# Altium footprint library WE-SHC.PcbLib: 139 footprints (part 7 of 10)
Each footprint in its own frame and in the unit in brackets; x right, y up, seen from the top. Pads: shape width x height; smd on the part's side, far side on the other; paste and mask are expansions set on the pad; w line width, h text height; cw(c..) or ccw(c..) is an arc to the next point about the centre after c.
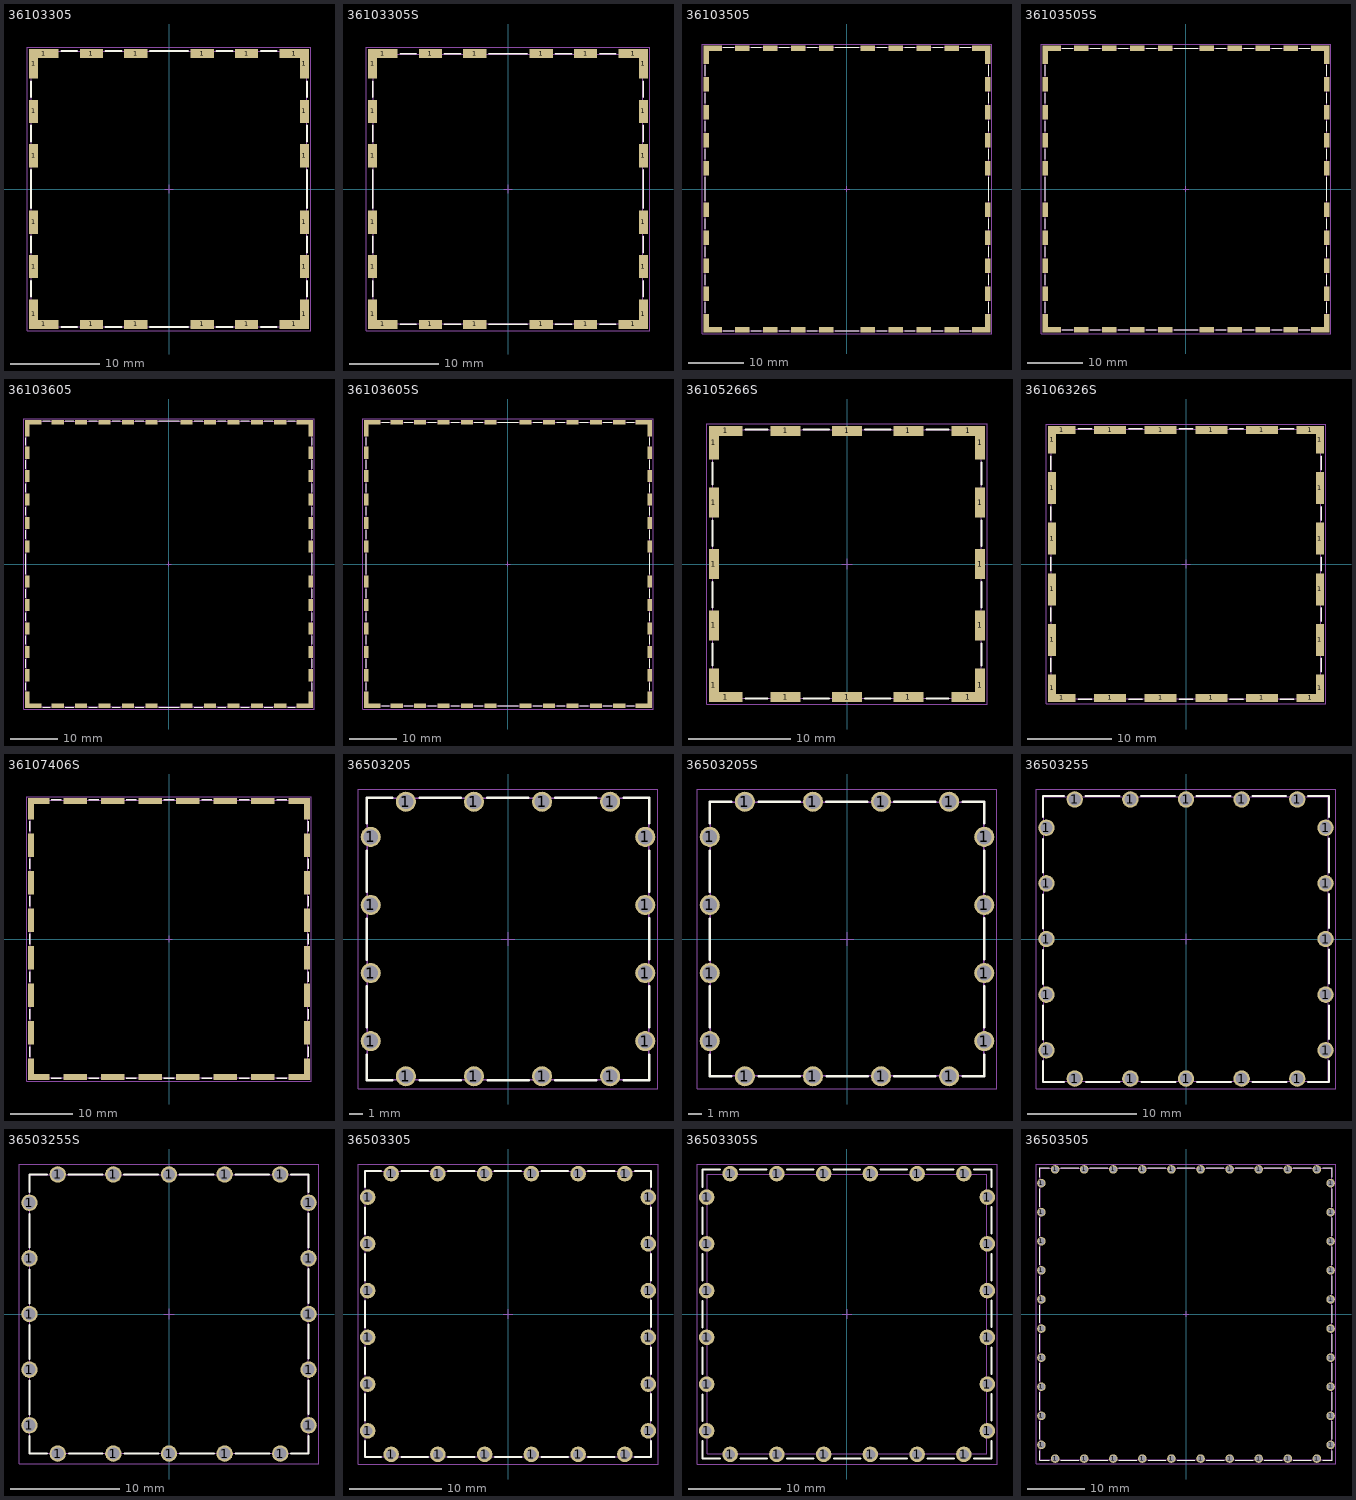
[diagram p6: the footprints below, top view; thin cyan lines are the x and y axes]

## 36103305 [mm] "Shielding Cabinet, SMD Frame, body 31x31mm"
height 3.6
pads (24):
  rect 1x3.3 smd: 1(-15.25,-14.1) 1(-15.25,14.1) 1(15.25,-14.1) 1(15.25,14.1)
  rect 1x2.6 smd: 1(-15.25,-8.75) 1(-15.25,-3.75) 1(-15.25,3.75) 1(-15.25,8.75) 1(15.25,-8.75) 1(15.25,-3.75) 1(15.25,3.75) 1(15.25,8.75)
  rect 3.3x1 smd: 1(-14.1,-15.25) 1(-14.1,15.25) 1(14.1,-15.25) 1(14.1,15.25)
  rect 2.6x1 smd: 1(-8.75,-15.25) 1(-8.75,15.25) 1(-3.75,-15.25) 1(-3.75,15.25) 1(3.75,-15.25) 1(3.75,15.25) 1(8.75,-15.25) 1(8.75,15.25)
Top Overlay:
  lines w0.2: -15.55,-12.15 -15.55,-10.35 ; -15.55,-7.15 -15.55,-5.35 ; -15.55,-2.15 -15.55,2.15 ; -15.55,5.35 -15.55,7.15 ; -15.55,10.35 -15.55,12.15 ; -12.15,-15.55 -10.35,-15.55 ; -12.15,15.55 -10.35,15.55 ; -7.15,-15.55 -5.35,-15.55 ; -7.15,15.55 -5.35,15.55 ; -2.15,-15.55 2.15,-15.55 ; -2.15,15.55 2.15,15.55 ; 5.35,-15.55 7.15,-15.55 ; 5.35,15.55 7.15,15.55 ; 10.35,-15.55 12.15,-15.55 ; 10.35,15.55 12.15,15.55 ; 15.55,-12.15 15.55,-10.35 ; 15.55,-7.15 15.55,-5.35 ; 15.55,-2.15 15.55,2.15 ; 15.55,5.35 15.55,7.15 ; 15.55,10.35 15.55,12.15
Top Component Outline:
  lines w0.1: -15.5,-15.5 15.5,-15.5 15.5,15.5 -15.5,15.5 -15.5,-15.5
Top 3D Body:
  lines w0.1: -15.5,-15.5 -15.5,15.5 15.5,15.5 15.5,-15.5 -15.5,-15.5
Top Courtyard:
  lines w0.05: -15.95,-15.95 15.95,-15.95 15.95,15.95 -15.95,15.95 -15.95,-15.95
Top Component Center:
  lines w0.05: -0.5,0 0.5,0 ; 0,-0.5 0,0.5
Top Designator (Mech19):
  text ".Designator" at -7.498,-0.5 h1.5
3D body "36103305.stp": height 3.5, standoff 0, extent -15.5,-15.5 15.5,15.5

## 36103305S [mm] "Shielding Cabinet, SMD Frame, 30.4x30.4mm"
height 3.3
pads (24):
  rect 1x3.3 smd: 1(-15.25,-14.1) 1(-15.25,14.1) 1(15.25,-14.1) 1(15.25,14.1)
  rect 1x2.6 smd: 1(-15.25,-8.75) 1(-15.25,-3.75) 1(-15.25,3.75) 1(-15.25,8.75) 1(15.25,-8.75) 1(15.25,-3.75) 1(15.25,3.75) 1(15.25,8.75)
  rect 3.3x1 smd: 1(-14.1,-15.25) 1(-14.1,15.25) 1(14.1,-15.25) 1(14.1,15.25)
  rect 2.6x1 smd: 1(-8.75,-15.25) 1(-8.75,15.25) 1(-3.75,-15.25) 1(-3.75,15.25) 1(3.75,-15.25) 1(3.75,15.25) 1(8.75,-15.25) 1(8.75,15.25)
Top Overlay:
  lines w0.2: -15.25,-12.15 -15.25,-10.35 ; -15.25,-7.15 -15.25,-5.35 ; -15.25,-2.15 -15.25,2.15 ; -15.25,5.35 -15.25,7.15 ; -15.25,10.35 -15.25,12.15 ; -12.15,-15.25 -10.35,-15.25 ; -12.15,15.25 -10.35,15.25 ; -7.15,-15.25 -5.35,-15.25 ; -7.15,15.25 -5.35,15.25 ; -2.15,-15.25 2.15,-15.25 ; -2.15,15.25 2.15,15.25 ; 5.35,-15.25 7.15,-15.25 ; 5.35,15.25 7.15,15.25 ; 10.35,-15.25 12.15,-15.25 ; 10.35,15.25 12.15,15.25 ; 15.25,-12.15 15.25,-10.35 ; 15.25,-7.15 15.25,-5.35 ; 15.25,-2.15 15.25,2.15 ; 15.25,5.35 15.25,7.15 ; 15.25,10.35 15.25,12.15
Top Component Outline:
  lines w0.1: -15.2,-15.2 -15.2,15.2 15.2,15.2 15.2,-15.2 -15.2,-15.2
Top 3D Body:
  lines w0.1: -15.2,-15.2 15.2,-15.2 15.2,15.2 -15.2,15.2 -15.2,-15.2
Top Courtyard:
  lines w0.05: -15.95,-15.95 -15.95,15.95 15.95,15.95 15.95,-15.95 -15.95,-15.95
Top Component Center:
  lines w0.05: -0.5,0 0.5,0 ; 0,-0.5 0,0.5
Top Designator (Mech19):
  text ".Designator" at -7.498,-0.5 h1.5
3D body "36103305S.stp": height 3.2, standoff 0, extent -15.2,-15.2 15.2,15.2

## 36103505 [mm] "Shielding Cabinet, SMD Frame, body 51x51mm"
height 3.6
pads (40):
  rect 1x3.3 smd: 1(-25.25,-24.1) 1(-25.25,24.1) 1(25.25,-24.1) 1(25.25,24.1)
  rect 1x2.6 smd: 1(-25.25,-18.75) 1(-25.25,-13.75) 1(-25.25,-8.75) 1(-25.25,-3.75) 1(-25.25,3.75) 1(-25.25,8.75) 1(-25.25,13.75) 1(-25.25,18.75) 1(25.25,-18.75) 1(25.25,-13.75) 1(25.25,-8.75) 1(25.25,-3.75) 1(25.25,3.75) 1(25.25,8.75) 1(25.25,13.75) 1(25.25,18.75)
  rect 3.3x1 smd: 1(-24.1,-25.25) 1(-24.1,25.25) 1(24.1,-25.25) 1(24.1,25.25)
  rect 2.6x1 smd: 1(-18.75,-25.25) 1(-18.75,25.25) 1(-13.75,-25.25) 1(-13.75,25.25) 1(-8.75,-25.25) 1(-8.75,25.25) 1(-3.75,-25.25) 1(-3.75,25.25) 1(3.75,-25.25) 1(3.75,25.25) 1(8.75,-25.25) 1(8.75,25.25) 1(13.75,-25.25) 1(13.75,25.25) 1(18.75,-25.25) 1(18.75,25.25)
Top Overlay:
  lines w0.2: -25.4,-22.15 -25.4,-20.35 ; -25.4,-17.15 -25.4,-15.35 ; -25.4,-12.15 -25.4,-10.35 ; -25.4,-7.15 -25.4,-5.35 ; -25.4,-2.15 -25.4,2.15 ; -25.4,5.35 -25.4,7.15 ; -25.4,10.35 -25.4,12.15 ; -25.4,15.35 -25.4,17.15 ; -25.4,20.35 -25.4,22.15 ; -22.15,-25.4 -20.35,-25.4 ; -22.15,25.4 -20.35,25.4 ; -17.15,-25.4 -15.35,-25.4 ; -17.15,25.4 -15.35,25.4 ; -12.15,-25.4 -10.35,-25.4 ; -12.15,25.4 -10.35,25.4 ; -7.15,-25.4 -5.35,-25.4 ; -7.15,25.4 -5.35,25.4 ; -2.15,-25.4 2.15,-25.4 ; -2.15,25.4 2.15,25.4 ; 5.35,-25.4 7.15,-25.4 ; 5.35,25.4 7.15,25.4 ; 10.35,-25.4 12.15,-25.4 ; 10.35,25.4 12.15,25.4 ; 15.35,-25.4 17.15,-25.4 ; 15.35,25.4 17.15,25.4 ; 20.35,-25.4 22.15,-25.4 ; 20.35,25.4 22.15,25.4 ; 25.4,-22.15 25.4,-20.35 ; 25.4,-17.15 25.4,-15.35 ; 25.4,-12.15 25.4,-10.35 ; 25.4,-7.15 25.4,-5.35 ; 25.4,-2.15 25.4,2.15 ; 25.4,5.35 25.4,7.15 ; 25.4,10.35 25.4,12.15 ; 25.4,15.35 25.4,17.15 ; 25.4,20.35 25.4,22.15
Top Component Outline:
  lines w0.1: -25.4,-25.4 -25.4,25.4 25.4,25.4 25.4,-25.4 -25.4,-25.4
Top 3D Body:
  lines w0.1: -25.4,-25.4 25.4,-25.4 25.4,25.4 -25.4,25.4 -25.4,-25.4
Top Courtyard:
  lines w0.05: -25.95,-25.95 25.95,-25.95 25.95,25.95 -25.95,25.95 -25.95,-25.95
Top Component Center:
  lines w0.05: -0.5,0 0.5,0 ; 0,-0.5 0,0.5
Top Designator (Mech19):
  text ".Designator" at -7.498,-0.5 h1.5
3D body "36103505.stp": height 3.5, standoff 0, extent -25.4,-25.5 25.6,25.5

## 36103505S [mm] "Shielding Cabinet, SMD Frame, 50.4x50.4mm"
height 3.3
pads (40):
  rect 1x3.3 smd: 1(-25.25,-24.1) 1(-25.25,24.1) 1(25.25,-24.1) 1(25.25,24.1)
  rect 1x2.6 smd: 1(-25.25,-18.75) 1(-25.25,-13.75) 1(-25.25,-8.75) 1(-25.25,-3.75) 1(-25.25,3.75) 1(-25.25,8.75) 1(-25.25,13.75) 1(-25.25,18.75) 1(25.25,-18.75) 1(25.25,-13.75) 1(25.25,-8.75) 1(25.25,-3.75) 1(25.25,3.75) 1(25.25,8.75) 1(25.25,13.75) 1(25.25,18.75)
  rect 3.3x1 smd: 1(-24.1,-25.25) 1(-24.1,25.25) 1(24.1,-25.25) 1(24.1,25.25)
  rect 2.6x1 smd: 1(-18.75,-25.25) 1(-18.75,25.25) 1(-13.75,-25.25) 1(-13.75,25.25) 1(-8.75,-25.25) 1(-8.75,25.25) 1(-3.75,-25.25) 1(-3.75,25.25) 1(3.75,-25.25) 1(3.75,25.25) 1(8.75,-25.25) 1(8.75,25.25) 1(13.75,-25.25) 1(13.75,25.25) 1(18.75,-25.25) 1(18.75,25.25)
Top Overlay:
  lines w0.2: -25.25,-22.15 -25.25,-20.35 ; -25.25,-17.15 -25.25,-15.35 ; -25.25,-12.15 -25.25,-10.35 ; -25.25,-7.15 -25.25,-5.35 ; -25.25,-2.15 -25.25,2.15 ; -25.25,5.35 -25.25,7.15 ; -25.25,10.35 -25.25,12.15 ; -25.25,15.35 -25.25,17.15 ; -25.25,20.35 -25.25,22.15 ; -22.15,-25.25 -20.35,-25.25 ; -22.15,25.25 -20.35,25.25 ; -17.15,-25.25 -15.35,-25.25 ; -17.15,25.25 -15.35,25.25 ; -12.15,-25.25 -10.35,-25.25 ; -12.15,25.25 -10.35,25.25 ; -7.15,-25.25 -5.35,-25.25 ; -7.15,25.25 -5.35,25.25 ; -2.15,-25.25 2.15,-25.25 ; -2.15,25.25 2.15,25.25 ; 5.35,-25.25 7.15,-25.25 ; 5.35,25.25 7.15,25.25 ; 10.35,-25.25 12.15,-25.25 ; 10.35,25.25 12.15,25.25 ; 15.35,-25.25 17.15,-25.25 ; 15.35,25.25 17.15,25.25 ; 20.35,-25.25 22.15,-25.25 ; 20.35,25.25 22.15,25.25 ; 25.25,-22.15 25.25,-20.35 ; 25.25,-17.15 25.25,-15.35 ; 25.25,-12.15 25.25,-10.35 ; 25.25,-7.15 25.25,-5.35 ; 25.25,-2.15 25.25,2.15 ; 25.25,5.35 25.25,7.15 ; 25.25,10.35 25.25,12.15 ; 25.25,15.35 25.25,17.15 ; 25.25,20.35 25.25,22.15
Top Component Outline:
  lines w0.1: -25.2,-25.2 25.2,-25.2 25.2,25.2 -25.2,25.2 -25.2,-25.2
Top 3D Body:
  lines w0.1: -25.2,-25.2 -25.2,25.2 25.2,25.2 25.2,-25.2 -25.2,-25.2
Top Courtyard:
  lines w0.05: -25.95,-25.95 25.95,-25.95 25.95,25.95 -25.95,25.95 -25.95,-25.95
Top Component Center:
  lines w0.05: -0.5,0 0.5,0 ; 0,-0.5 0,0.5
Top Designator (Mech19):
  text ".Designator" at -7.498,-0.5 h1.5
3D body "36103505S.stp": height 3.2, standoff 0, extent -25.2,-25.2 25.2,25.2

## 36103605 [mm] "Shielding Cabinet, SMD Frame, body 61x61mm"
height 3.6
pads (48):
  rect 1x3.5 smd: 1(-30.25,-29) 1(-30.25,29) 1(30.25,-29) 1(30.25,29)
  rect 1x2.6 smd: 1(-30.25,-23.75) 1(-30.25,-18.75) 1(-30.25,-13.75) 1(-30.25,-8.75) 1(-30.25,-3.75) 1(-30.25,3.75) 1(-30.25,8.75) 1(-30.25,13.75) 1(-30.25,18.75) 1(-30.25,23.75) 1(30.25,-23.75) 1(30.25,-18.75) 1(30.25,-13.75) 1(30.25,-8.75) 1(30.25,-3.75) 1(30.25,3.75) 1(30.25,8.75) 1(30.25,13.75) 1(30.25,18.75) 1(30.25,23.75)
  rect 3.5x1 smd: 1(-29,-30.25) 1(-29,30.25) 1(29,-30.25) 1(29,30.25)
  rect 2.6x1 smd: 1(-23.75,-30.25) 1(-23.75,30.25) 1(-18.75,-30.25) 1(-18.75,30.25) 1(-13.75,-30.25) 1(-13.75,30.25) 1(-8.75,-30.25) 1(-8.75,30.25) 1(-3.75,-30.25) 1(-3.75,30.25) 1(3.75,-30.25) 1(3.75,30.25) 1(8.75,-30.25) 1(8.75,30.25) 1(13.75,-30.25) 1(13.75,30.25) 1(18.75,-30.25) 1(18.75,30.25) 1(23.75,-30.25) 1(23.75,30.25)
Top Overlay:
  lines w0.2: -30.55,-26.95 -30.55,-25.35 ; -30.55,-22.15 -30.55,-20.35 ; -30.55,-17.15 -30.55,-15.35 ; -30.55,-12.15 -30.55,-10.35 ; -30.55,-7.15 -30.55,-5.35 ; -30.55,-2.15 -30.55,2.15 ; -30.55,5.35 -30.55,7.15 ; -30.55,10.35 -30.55,12.15 ; -30.55,15.35 -30.55,17.15 ; -30.55,20.35 -30.55,22.15 ; -30.55,25.35 -30.55,26.95 ; -26.95,-30.55 -25.35,-30.55 ; -26.95,30.55 -25.35,30.55 ; -22.15,-30.55 -20.35,-30.55 ; -22.15,30.55 -20.35,30.55 ; -17.15,-30.55 -15.35,-30.55 ; -17.15,30.55 -15.35,30.55 ; -12.15,-30.55 -10.35,-30.55 ; -12.15,30.55 -10.35,30.55 ; -7.15,-30.55 -5.35,-30.55 ; -7.15,30.55 -5.35,30.55 ; -2.15,-30.55 2.15,-30.55 ; -2.15,30.55 2.15,30.55 ; 5.35,-30.55 7.15,-30.55 ; 5.35,30.55 7.15,30.55 ; 10.35,-30.55 12.15,-30.55 ; 10.35,30.55 12.15,30.55 ; 15.35,-30.55 17.15,-30.55 ; 15.35,30.55 17.15,30.55 ; 20.35,-30.55 22.15,-30.55 ; 20.35,30.55 22.15,30.55 ; 25.35,-30.55 26.95,-30.55 ; 25.35,30.55 26.95,30.55 ; 30.55,-26.95 30.55,-25.35 ; 30.55,-22.15 30.55,-20.35 ; 30.55,-17.15 30.55,-15.35 ; 30.55,-12.15 30.55,-10.35 ; 30.55,-7.15 30.55,-5.35 ; 30.55,-2.15 30.55,2.15 ; 30.55,5.35 30.55,7.15 ; 30.55,10.35 30.55,12.15 ; 30.55,15.35 30.55,17.15 ; 30.55,20.35 30.55,22.15 ; 30.55,25.35 30.55,26.95
Top Component Outline:
  lines w0.1: -30.5,-30.5 -30.5,30.5 30.5,30.5 30.5,-30.5 -30.5,-30.5
Top 3D Body:
  lines w0.1: -30.5,-30.5 30.5,-30.5 30.5,30.5 -30.5,30.5 -30.5,-30.5
Top Courtyard:
  lines w0.05: -30.95,-30.95 -30.95,30.95 30.95,30.95 30.95,-30.95 -30.95,-30.95
Top Component Center:
  lines w0.05: -0.5,0 0.5,0 ; 0,-0.5 0,0.5
Top Designator (Mech19):
  text ".Designator" at -7.498,-0.5 h1.5
3D body "36103605.stp": height 3.5, standoff 0, extent -30.5,-30.5 30.5,30.5

## 36103605S [mm] "Shielding Cabinet, SMD Frame, 60.4x60.4mm"
height 3.3
pads (48):
  rect 1x3.5 smd: 1(-30.25,-29) 1(-30.25,29) 1(30.25,-29) 1(30.25,29)
  rect 1x2.6 smd: 1(-30.25,-23.75) 1(-30.25,-18.75) 1(-30.25,-13.75) 1(-30.25,-8.75) 1(-30.25,-3.75) 1(-30.25,3.75) 1(-30.25,8.75) 1(-30.25,13.75) 1(-30.25,18.75) 1(-30.25,23.75) 1(30.25,-23.75) 1(30.25,-18.75) 1(30.25,-13.75) 1(30.25,-8.75) 1(30.25,-3.75) 1(30.25,3.75) 1(30.25,8.75) 1(30.25,13.75) 1(30.25,18.75) 1(30.25,23.75)
  rect 3.5x1 smd: 1(-29,-30.25) 1(-29,30.25) 1(29,-30.25) 1(29,30.25)
  rect 2.6x1 smd: 1(-23.75,-30.25) 1(-23.75,30.25) 1(-18.75,-30.25) 1(-18.75,30.25) 1(-13.75,-30.25) 1(-13.75,30.25) 1(-8.75,-30.25) 1(-8.75,30.25) 1(-3.75,-30.25) 1(-3.75,30.25) 1(3.75,-30.25) 1(3.75,30.25) 1(8.75,-30.25) 1(8.75,30.25) 1(13.75,-30.25) 1(13.75,30.25) 1(18.75,-30.25) 1(18.75,30.25) 1(23.75,-30.25) 1(23.75,30.25)
Top Overlay:
  lines w0.2: -30.25,-26.95 -30.25,-25.35 ; -30.25,-22.15 -30.25,-20.35 ; -30.25,-17.15 -30.25,-15.35 ; -30.25,-12.15 -30.25,-10.35 ; -30.25,-7.15 -30.25,-5.35 ; -30.25,-2.15 -30.25,2.15 ; -30.25,5.35 -30.25,7.15 ; -30.25,10.35 -30.25,12.15 ; -30.25,15.35 -30.25,17.15 ; -30.25,20.35 -30.25,22.15 ; -30.25,25.35 -30.25,26.95 ; -26.95,-30.25 -25.35,-30.25 ; -26.95,30.25 -25.35,30.25 ; -22.15,-30.25 -20.35,-30.25 ; -22.15,30.25 -20.35,30.25 ; -17.15,-30.25 -15.35,-30.25 ; -17.15,30.25 -15.35,30.25 ; -12.15,-30.25 -10.35,-30.25 ; -12.15,30.25 -10.35,30.25 ; -7.15,-30.25 -5.35,-30.25 ; -7.15,30.25 -5.35,30.25 ; -2.15,-30.25 2.15,-30.25 ; -2.15,30.25 2.15,30.25 ; 5.35,-30.25 7.15,-30.25 ; 5.35,30.25 7.15,30.25 ; 10.35,-30.25 12.15,-30.25 ; 10.35,30.25 12.15,30.25 ; 15.35,-30.25 17.15,-30.25 ; 15.35,30.25 17.15,30.25 ; 20.35,-30.25 22.15,-30.25 ; 20.35,30.25 22.15,30.25 ; 25.35,-30.25 26.95,-30.25 ; 25.35,30.25 26.95,30.25 ; 30.25,-26.95 30.25,-25.35 ; 30.25,-22.15 30.25,-20.35 ; 30.25,-17.15 30.25,-15.35 ; 30.25,-12.15 30.25,-10.35 ; 30.25,-7.15 30.25,-5.35 ; 30.25,-2.15 30.25,2.15 ; 30.25,5.35 30.25,7.15 ; 30.25,10.35 30.25,12.15 ; 30.25,15.35 30.25,17.15 ; 30.25,20.35 30.25,22.15 ; 30.25,25.35 30.25,26.95
Top Component Outline:
  lines w0.1: -30.2,-30.2 30.2,-30.2 30.2,30.2 -30.2,30.2 -30.2,-30.2
Top 3D Body:
  lines w0.1: -30.2,-30.2 -30.2,30.2 30.2,30.2 30.2,-30.2 -30.2,-30.2
Top Courtyard:
  lines w0.05: -30.95,-30.95 -30.95,30.95 30.95,30.95 30.95,-30.95 -30.95,-30.95
Top Component Center:
  lines w0.05: -0.5,0 0.5,0 ; 0,-0.5 0,0.5
Top Designator (Mech19):
  text ".Designator" at -7.498,-0.5 h1.5
3D body "36103605S.stp": height 3.2, standoff 0, extent -30.2,-30.2 30.2,30.2

## 36105266S [mm] "Shielding Cabinet, SMD Frame, body 26.21x26.21mm"
height 5.18
pads (20):
  rect 1x3.3 smd: 1(-13.005,-11.855) 1(-13.005,11.855) 1(13.005,-11.855) 1(13.005,11.855)
  rect 1x2.9 smd: 1(-13.005,-6) 1(-13.005,0) 1(-13.005,6) 1(13.005,-6) 1(13.005,0) 1(13.005,6)
  rect 3.3x1 smd: 1(-11.855,-13.005) 1(-11.855,13.005) 1(11.855,-13.005) 1(11.855,13.005)
  rect 2.9x1 smd: 1(-6,-13.005) 1(-6,13.005) 1(0,-13.005) 1(0,13.005) 1(6,-13.005) 1(6,13.005)
Top Overlay:
  lines w0.2: -13.155,-9.9 -13.155,-7.75 ; -13.155,-4.25 -13.155,-1.75 ; -13.155,1.75 -13.155,4.25 ; -13.155,7.75 -13.155,9.9 ; -9.9,-13.155 -7.75,-13.155 ; -9.9,13.155 -7.75,13.155 ; -4.25,-13.155 -1.75,-13.155 ; -4.25,13.155 -1.75,13.155 ; 1.75,-13.155 4.25,-13.155 ; 1.75,13.155 4.25,13.155 ; 7.75,-13.155 9.9,-13.155 ; 7.75,13.155 9.9,13.155 ; 13.155,-9.9 13.155,-7.75 ; 13.155,-4.25 13.155,-1.75 ; 13.155,1.75 13.155,4.25 ; 13.155,7.75 13.155,9.9
Top Component Outline:
  lines w0.1: -13.105,-13.105 -13.105,13.105 13.105,13.105 13.105,-13.105 -13.105,-13.105
Top 3D Body:
  lines w0.1: -13.105,-13.105 13.105,-13.105 13.105,13.105 -13.105,13.105 -13.105,-13.105
Top Courtyard:
  lines w0.05: -13.705,-13.705 -13.705,13.705 13.705,13.705 13.705,-13.705 -13.705,-13.705
Top Component Center:
  lines w0.05: -0.5,0 0.5,0 ; 0,-0.5 0,0.5
Top Designator (Mech19):
  text ".Designator" at -7.498,-0.5 h1.5
3D body "36105266S.stp": height 5.09, standoff 0.01, extent -13.105,-13.105 13.105,13.105

## 36106326S [mm] "Shielding Cabinet, SMD Frame, body 32x32mm"
height 6.1
pads (24):
  rect 1x3.3 smd: 1(-15.9,-14.75) 1(-15.9,14.75) 1(15.9,-14.75) 1(15.9,14.75)
  rect 1x3.8 smd: 1(-15.9,-9) 1(-15.9,-3) 1(-15.9,3) 1(-15.9,9) 1(15.9,-9) 1(15.9,-3) 1(15.9,3) 1(15.9,9)
  rect 3.3x1 smd: 1(-14.75,-15.9) 1(-14.75,15.9) 1(14.75,-15.9) 1(14.75,15.9)
  rect 3.8x1 smd: 1(-9,-15.9) 1(-9,15.9) 1(-3,-15.9) 1(-3,15.9) 1(3,-15.9) 1(3,15.9) 1(9,-15.9) 1(9,15.9)
Top Overlay:
  lines w0.2: -16.05,-12.8 -16.05,-11.2 ; -16.05,-6.8 -16.05,-5.2 ; -16.05,-0.8 -16.05,0.8 ; -16.05,5.2 -16.05,6.8 ; -16.05,11.2 -16.05,12.8 ; -12.8,-16.05 -11.2,-16.05 ; -12.8,16.05 -11.2,16.05 ; -6.8,-16.05 -5.2,-16.05 ; -6.8,16.05 -5.2,16.05 ; -0.8,-16.05 0.8,-16.05 ; -0.8,16.05 0.8,16.05 ; 5.2,-16.05 6.8,-16.05 ; 5.2,16.05 6.8,16.05 ; 11.2,-16.05 12.8,-16.05 ; 11.2,16.05 12.8,16.05 ; 16.05,-12.8 16.05,-11.2 ; 16.05,-6.8 16.05,-5.2 ; 16.05,-0.8 16.05,0.8 ; 16.05,5.2 16.05,6.8 ; 16.05,11.2 16.05,12.8
Top Component Outline:
  lines w0.1: -16,-16 -16,16 16,16 16,-16 -16,-16
Top 3D Body:
  lines w0.1: -16,-16 16,-16 16,16 -16,16 -16,-16
Top Courtyard:
  lines w0.05: -16.6,-16.6 -16.6,16.6 16.6,16.6 16.6,-16.6 -16.6,-16.6
Top Component Center:
  lines w0.05: -0.5,0 0.5,0 ; 0,-0.5 0,0.5
Top Designator (Mech19):
  text ".Designator" at -7.498,-0.5 h1.5
3D body "36106326S.stp": height 6, standoff 0, extent -16,-16 16,16

## 36107406S [mm] "Shielding Cabinet, SMD Frame, body 44.37x44.37mm"
height 9.85
pads (32):
  rect 1x3.48 smd: 1(-22.085,-20.845) 1(-22.085,20.845) 1(22.085,-20.845) 1(22.085,20.845)
  rect 1x3.8 smd: 1(-22.085,-15) 1(-22.085,-9) 1(-22.085,-3) 1(-22.085,3) 1(-22.085,9) 1(-22.085,15) 1(22.085,-15) 1(22.085,-9) 1(22.085,-3) 1(22.085,3) 1(22.085,9) 1(22.085,15)
  rect 3.48x1 smd: 1(-20.845,-22.085) 1(-20.845,22.085) 1(20.845,-22.085) 1(20.845,22.085)
  rect 3.8x1 smd: 1(-15,-22.085) 1(-15,22.085) 1(-9,-22.085) 1(-9,22.085) 1(-3,-22.085) 1(-3,22.085) 1(3,-22.085) 1(3,22.085) 1(9,-22.085) 1(9,22.085) 1(15,-22.085) 1(15,22.085)
Top Overlay:
  lines w0.2: -22.235,-18.8 -22.235,-17.2 ; -22.235,-12.8 -22.235,-11.2 ; -22.235,-6.8 -22.235,-5.2 ; -22.235,-0.8 -22.235,0.8 ; -22.235,5.2 -22.235,6.8 ; -22.235,11.2 -22.235,12.8 ; -22.235,17.2 -22.235,18.8 ; -18.8,-22.235 -17.2,-22.235 ; -18.8,22.235 -17.2,22.235 ; -12.8,-22.235 -11.2,-22.235 ; -12.8,22.235 -11.2,22.235 ; -6.8,-22.235 -5.2,-22.235 ; -6.8,22.235 -5.2,22.235 ; -0.8,-22.235 0.8,-22.235 ; -0.8,22.235 0.8,22.235 ; 5.2,-22.235 6.8,-22.235 ; 5.2,22.235 6.8,22.235 ; 11.2,-22.235 12.8,-22.235 ; 11.2,22.235 12.8,22.235 ; 17.2,-22.235 18.8,-22.235 ; 17.2,22.235 18.8,22.235 ; 22.235,-18.8 22.235,-17.2 ; 22.235,-12.8 22.235,-11.2 ; 22.235,-6.8 22.235,-5.2 ; 22.235,-0.8 22.235,0.8 ; 22.235,5.2 22.235,6.8 ; 22.235,11.2 22.235,12.8 ; 22.235,17.2 22.235,18.8
Top Component Outline:
  lines w0.1: -22.185,-22.185 -22.185,22.185 22.185,22.185 22.185,-22.185 -22.185,-22.185
Top 3D Body:
  lines w0.1: -22.185,-22.185 22.185,-22.185 22.185,22.185 -22.185,22.185 -22.185,-22.185
Top Courtyard:
  lines w0.05: -22.785,-22.785 -22.785,22.785 22.785,22.785 22.785,-22.785 -22.785,-22.785
Top Component Center:
  lines w0.05: -0.5,0 0.5,0 ; 0,-0.5 0,0.5
Top Designator (Mech19):
  text ".Designator" at -7.498,-0.5 h1.5
3D body "36107406S.stp": height 9.75, standoff 0, extent -22.185,-22.185 22.185,22.185

## 36503205 [mm] "Shielding Cabinet, THT Frame, body 21x21mm"
height 3.6
pads (16):
  round 1.5 hole 1.1: 1(-10.25,-7.62) 1(-10.25,-2.54) 1(-10.25,2.54) 1(-10.25,7.62) 1(-7.62,-10.25) 1(-7.62,10.25) 1(-2.54,-10.25) 1(-2.54,10.25) 1(2.54,-10.25) 1(2.54,10.25) 1(7.62,-10.25) 1(7.62,10.25) 1(10.25,-7.62) 1(10.25,-2.54) 1(10.25,2.54) 1(10.25,7.62)
Top Overlay:
  lines w0.2: -10.55,-8.65 -10.55,-10.55 -8.65,-10.55 ; -10.55,-6.59 -10.55,-3.55 ; -10.55,-1.53 -10.55,1.51 ; -10.55,3.55 -10.55,6.59 ; -10.55,8.65 -10.55,10.55 -8.65,10.55 ; -6.59,-10.55 -3.55,-10.55 ; -6.59,10.55 -3.55,10.55 ; -1.53,10.55 1.51,10.55 ; -1.51,-10.55 1.53,-10.55 ; 3.55,-10.55 6.59,-10.55 ; 3.55,10.55 6.59,10.55 ; 8.65,-10.55 10.55,-10.55 10.55,-8.65 ; 8.65,10.55 10.55,10.55 10.55,8.65 ; 10.55,-6.59 10.55,-3.55 ; 10.55,-1.51 10.55,1.53 ; 10.55,3.55 10.55,6.59
Top Component Outline:
  lines w0.1: -10.5,-10.5 -10.5,10.5 10.5,10.5 10.5,-10.5 -10.5,-10.5
Top 3D Body:
  lines w0.1: -10.5,-10.5 10.5,-10.5 10.5,10.5 -10.5,10.5 -10.5,-10.5
Top Courtyard:
  lines w0.05: -11.2,-11.2 -11.2,11.2 11.2,11.2 11.2,-11.2 -11.2,-11.2
Top Component Center:
  lines w0.05: -0.5,0 0.5,0 ; 0,-0.5 0,0.5
Top Designator (Mech19):
  text ".Designator" at -7.498,-0.5 h1.5
3D body "36503205.stp": height 3.5, standoff -2.9, extent -10.5,-10.5 10.5,10.5

## 36503205S [mm] "Shielding Cabinet, THT Frame, body 20.4x20.4mm"
height 3.3
pads (16):
  round 1.5 hole 1.1: 1(-10.25,-7.62) 1(-10.25,-2.54) 1(-10.25,2.54) 1(-10.25,7.62) 1(-7.62,-10.25) 1(-7.62,10.25) 1(-2.54,-10.25) 1(-2.54,10.25) 1(2.54,-10.25) 1(2.54,10.25) 1(7.62,-10.25) 1(7.62,10.25) 1(10.25,-7.62) 1(10.25,-2.54) 1(10.25,2.54) 1(10.25,7.62)
Top Overlay:
  lines w0.2: -10.25,-8.65 -10.25,-10.25 -8.65,-10.25 ; -10.25,-6.59 -10.25,-3.55 ; -10.25,-1.53 -10.25,1.51 ; -10.25,3.55 -10.25,6.59 ; -10.25,8.65 -10.25,10.25 -8.65,10.25 ; -6.59,-10.25 -3.55,-10.25 ; -6.59,10.25 -3.55,10.25 ; -1.53,10.25 1.51,10.25 ; -1.51,-10.25 1.53,-10.25 ; 3.55,-10.25 6.59,-10.25 ; 3.55,10.25 6.59,10.25 ; 8.65,-10.25 10.25,-10.25 10.25,-8.65 ; 8.65,10.25 10.25,10.25 10.25,8.65 ; 10.25,-6.59 10.25,-3.55 ; 10.25,-1.51 10.25,1.53 ; 10.25,3.55 10.25,6.59
Top Component Outline:
  lines w0.1: -10.2,-10.2 10.2,-10.2 10.2,10.2 -10.2,10.2 -10.2,-10.2
Top 3D Body:
  lines w0.1: -10.2,-10.2 -10.2,10.2 10.2,10.2 10.2,-10.2 -10.2,-10.2
Top Courtyard:
  lines w0.05: -11.2,-11.2 -11.2,11.2 11.2,11.2 11.2,-11.2 -11.2,-11.2
Top Component Center:
  lines w0.05: -0.5,0 0.5,0 ; 0,-0.5 0,0.5
Top Designator (Mech19):
  text ".Designator" at -7.498,-0.5 h1.5
3D body "36503205S.stp": height 3.2, standoff -2.9, extent -10.2,-10.2 10.2,10.2

## 36503255 [mm] "Shielding Cabinet, THT Frame, body 26x26mm"
height 3.6
pads (20):
  round 1.5 hole 1.1: 1(-12.75,-10.16) 1(-12.75,-5.08) 1(-12.75,0) 1(-12.75,5.08) 1(-12.75,10.16) 1(-10.16,-12.75) 1(-10.16,12.75) 1(-5.08,-12.75) 1(-5.08,12.75) 1(0,-12.75) 1(0,12.75) 1(5.08,-12.75) 1(5.08,12.75) 1(10.16,-12.75) 1(10.16,12.75) 1(12.75,-10.16) 1(12.75,-5.08) 1(12.75,0) 1(12.75,5.08) 1(12.75,10.16)
Top Overlay:
  lines w0.2: -13.05,-11.15 -13.05,-13.05 -11.15,-13.05 ; -13.05,-9.17 -13.05,-6.1 ; -13.05,-4.09 -13.05,-1.02 ; -13.05,0.99 -13.05,4.06 ; -13.05,6.07 -13.05,9.14 ; -13.05,11.15 -13.05,13.05 -11.15,13.05 ; -9.17,13.05 -6.1,13.05 ; -9.14,-13.05 -6.07,-13.05 ; -4.09,13.05 -1.02,13.05 ; -4.06,-13.05 -0.99,-13.05 ; 0.99,13.05 4.06,13.05 ; 1.02,-13.05 4.09,-13.05 ; 6.07,13.05 9.14,13.05 ; 6.1,-13.05 9.17,-13.05 ; 11.15,-13.05 13.05,-13.05 13.05,-11.15 ; 11.15,13.05 13.05,13.05 13.05,11.15 ; 13.05,-9.14 13.05,-6.07 ; 13.05,-4.06 13.05,-0.99 ; 13.05,1.02 13.05,4.09 ; 13.05,6.1 13.05,9.17
Top Component Outline:
  lines w0.1: -13,-13 13,-13 13,13 -13,13 -13,-13
Top 3D Body:
  lines w0.1: -13,-13 -13,13 13,13 13,-13 -13,-13
Top Courtyard:
  lines w0.05: -13.7,-13.7 13.7,-13.7 13.7,13.7 -13.7,13.7 -13.7,-13.7
Top Component Center:
  lines w0.05: -0.5,0 0.5,0 ; 0,-0.5 0,0.5
Top Designator (Mech19):
  text ".Designator" at -7.498,-0.5 h1.5
3D body "36503255.stp": height 3.5, standoff -2.9, extent -13,-13 13,13

## 36503255S [mm] "Shielding Cabinet, THT Frame, body 25.4x25.4mm"
height 3.3
pads (20):
  round 1.5 hole 1.1: 1(-12.75,-10.16) 1(-12.75,-5.08) 1(-12.75,0) 1(-12.75,5.08) 1(-12.75,10.16) 1(-10.16,-12.75) 1(-10.16,12.75) 1(-5.08,-12.75) 1(-5.08,12.75) 1(0,-12.75) 1(0,12.75) 1(5.08,-12.75) 1(5.08,12.75) 1(10.16,-12.75) 1(10.16,12.75) 1(12.75,-10.16) 1(12.75,-5.08) 1(12.75,0) 1(12.75,5.08) 1(12.75,10.16)
Top Overlay:
  lines w0.2: -12.75,-11.15 -12.75,-12.75 -11.15,-12.75 ; -12.75,-9.17 -12.75,-6.1 ; -12.75,-4.09 -12.75,-1.02 ; -12.75,0.99 -12.75,4.06 ; -12.75,6.07 -12.75,9.14 ; -12.75,11.15 -12.75,12.75 -11.15,12.75 ; -9.17,12.75 -6.1,12.75 ; -9.14,-12.75 -6.07,-12.75 ; -4.09,12.75 -1.02,12.75 ; -4.06,-12.75 -0.99,-12.75 ; 0.99,12.75 4.06,12.75 ; 1.02,-12.75 4.09,-12.75 ; 6.07,12.75 9.14,12.75 ; 6.1,-12.75 9.17,-12.75 ; 11.15,-12.75 12.75,-12.75 12.75,-11.15 ; 11.15,12.75 12.75,12.75 12.75,11.15 ; 12.75,-9.14 12.75,-6.07 ; 12.75,-4.06 12.75,-0.99 ; 12.75,1.02 12.75,4.09 ; 12.75,6.1 12.75,9.17
Top Component Outline:
  lines w0.1: -12.7,-12.7 12.7,-12.7 12.7,12.7 -12.7,12.7 -12.7,-12.7
Top 3D Body:
  lines w0.1: -12.7,-12.7 -12.7,12.7 12.7,12.7 12.7,-12.7 -12.7,-12.7
Top Courtyard:
  lines w0.05: -13.7,-13.7 -13.7,13.7 13.7,13.7 13.7,-13.7 -13.7,-13.7
Top Component Center:
  lines w0.05: -0.5,0 0.5,0 ; 0,-0.5 0,0.5
Top Designator (Mech19):
  text ".Designator" at -7.498,-0.5 h1.5
3D body "36503255S.stp": height 3.2, standoff -2.9, extent -12.7,-12.7 12.7,12.7

## 36503305 [mm] "Shielding Cabinet, THT Frame, body 31x31mm"
height 3.6
pads (24):
  round 1.7 hole 1.1: 1(-15.25,-12.7) 1(-15.25,-7.62) 1(-15.25,-2.54) 1(-15.25,2.54) 1(-15.25,7.62) 1(-15.25,12.7) 1(-12.7,-15.25) 1(-12.7,15.25) 1(-7.62,-15.25) 1(-7.62,15.25) 1(-2.54,-15.25) 1(-2.54,15.25) 1(2.54,-15.25) 1(2.54,15.25) 1(7.62,-15.25) 1(7.62,15.25) 1(12.7,-15.25) 1(12.7,15.25) 1(15.25,-12.7) 1(15.25,-7.62) 1(15.25,-2.54) 1(15.25,2.54) 1(15.25,7.62) 1(15.25,12.7)
Top Overlay:
  lines w0.2: -15.55,-13.8 -15.55,-15.55 -13.8,-15.55 ; -15.55,-11.6 -15.55,-8.7 ; -15.55,-6.54 -15.55,-3.64 ; -15.55,-1.46 -15.55,1.44 ; -15.55,3.62 -15.55,6.52 ; -15.55,8.7 -15.55,11.6 ; -15.55,13.8 -15.55,15.55 -13.8,15.55 ; -11.6,-15.55 -8.7,-15.55 ; -11.6,15.55 -8.7,15.55 ; -6.54,15.55 -3.64,15.55 ; -6.52,-15.55 -3.62,-15.55 ; -1.46,15.55 1.44,15.55 ; -1.44,-15.55 1.46,-15.55 ; 3.62,15.55 6.52,15.55 ; 3.64,-15.55 6.54,-15.55 ; 8.7,-15.55 11.6,-15.55 ; 8.7,15.55 11.6,15.55 ; 13.8,-15.55 15.55,-15.55 15.55,-13.8 ; 13.8,15.55 15.55,15.55 15.55,13.8 ; 15.55,-11.6 15.55,-8.7 ; 15.55,-6.52 15.55,-3.62 ; 15.55,-1.44 15.55,1.46 ; 15.55,3.64 15.55,6.54 ; 15.55,8.7 15.55,11.6
Top Component Outline:
  lines w0.1: -15.5,-15.5 15.5,-15.5 15.5,15.5 -15.5,15.5 -15.5,-15.5
Top 3D Body:
  lines w0.1: -15.5,-15.5 -15.5,15.5 15.5,15.5 15.5,-15.5 -15.5,-15.5
Top Courtyard:
  lines w0.05: -16.3,-16.3 16.3,-16.3 16.3,16.3 -16.3,16.3 -16.3,-16.3
Top Component Center:
  lines w0.05: -0.5,0 0.5,0 ; 0,-0.5 0,0.5
Top Designator (Mech19):
  text ".Designator" at -7.498,-0.5 h1.5
3D body "36503305.stp": height 3.5, standoff -2.9, extent -15.5,-15.5 15.5,15.5

## 36503305S [mm] "Shielding Cabinet, THT Frame, body 30.4x30.4mm"
height 3
pads (24):
  round 1.7 hole 1.1: 1(-15.25,-12.7) 1(-15.25,-7.62) 1(-15.25,-2.54) 1(-15.25,2.54) 1(-15.25,7.62) 1(-15.25,12.7) 1(-12.7,-15.25) 1(-12.7,15.25) 1(-7.62,-15.25) 1(-7.62,15.25) 1(-2.54,-15.25) 1(-2.54,15.25) 1(2.54,-15.25) 1(2.54,15.25) 1(7.62,-15.25) 1(7.62,15.25) 1(12.7,-15.25) 1(12.7,15.25) 1(15.25,-12.7) 1(15.25,-7.62) 1(15.25,-2.54) 1(15.25,2.54) 1(15.25,7.62) 1(15.25,12.7)
Top Overlay:
  lines w0.2: -15.7,-13.8 -15.7,-15.7 -13.8,-15.7 ; -15.7,-11.62 -15.7,-8.72 ; -15.7,-6.54 -15.7,-3.64 ; -15.7,-1.46 -15.7,1.44 ; -15.7,3.62 -15.7,6.52 ; -15.7,8.7 -15.7,11.6 ; -15.7,13.8 -15.7,15.7 -13.8,15.7 ; -11.62,15.7 -8.72,15.7 ; -11.6,-15.7 -8.7,-15.7 ; -6.54,15.7 -3.64,15.7 ; -6.52,-15.7 -3.62,-15.7 ; -1.46,15.7 1.44,15.7 ; -1.44,-15.7 1.46,-15.7 ; 3.62,15.7 6.52,15.7 ; 3.64,-15.7 6.54,-15.7 ; 8.7,15.7 11.6,15.7 ; 8.72,-15.7 11.62,-15.7 ; 13.8,-15.7 15.7,-15.7 15.7,-13.8 ; 13.8,15.7 15.7,15.7 15.7,13.8 ; 15.7,-11.6 15.7,-8.7 ; 15.7,-6.52 15.7,-3.62 ; 15.7,-1.44 15.7,1.46 ; 15.7,3.64 15.7,6.54 ; 15.7,8.72 15.7,11.62
Top Component Outline:
  lines w0.1: -15.2,-15.2 15.2,-15.2 15.2,15.2 -15.2,15.2 -15.2,-15.2
Top 3D Body:
  lines w0.1: -15.2,-15.2 -15.2,15.2 15.2,15.2 15.2,-15.2 -15.2,-15.2
Top Courtyard:
  lines w0.05: -16.3,-16.3 16.3,-16.3 16.3,16.3 -16.3,16.3 -16.3,-16.3
Top Component Center:
  lines w0.05: -0.5,0 0.5,0 ; 0,-0.5 0,0.5
Top Designator (Mech19):
  text ".Designator" at -7.498,-0.5 h1.5
3D body "36503305S.stp": height 3.25, standoff -2.85, extent -15.2,-15.2 15.2,15.2

## 36503505 [mm] "Shielding Cabinet, THT Frame, body 51x51mm"
height 3.6
pads (40):
  round 1.5 hole 1.1: 1(-25.25,-22.86) 1(-25.25,-17.78) 1(-25.25,-12.7) 1(-25.25,-7.62) 1(-25.25,-2.54) 1(-25.25,2.54) 1(-25.25,7.62) 1(-25.25,12.7) 1(-25.25,17.78) 1(-25.25,22.86) 1(-22.86,-25.25) 1(-22.86,25.25) 1(-17.78,-25.25) 1(-17.78,25.25) 1(-12.7,-25.25) 1(-12.7,25.25) 1(-7.62,-25.25) 1(-7.62,25.25) 1(-2.54,-25.25) 1(-2.54,25.25) 1(2.54,-25.25) 1(2.54,25.25) 1(7.62,-25.25) 1(7.62,25.25) 1(12.7,-25.25) 1(12.7,25.25) 1(17.78,-25.25) 1(17.78,25.25) 1(22.86,-25.25) 1(22.86,25.25) 1(25.25,-22.86) 1(25.25,-17.78) 1(25.25,-12.7) 1(25.25,-7.62) 1(25.25,-2.54) 1(25.25,2.54) 1(25.25,7.62) 1(25.25,12.7) 1(25.25,17.78) 1(25.25,22.86)
Top Overlay:
  lines w0.2: -25.55,-23.85 -25.55,-25.55 -23.85,-25.55 ; -25.55,-21.87 -25.55,-18.75 ; -25.55,-16.81 -25.55,-13.69 ; -25.55,-11.73 -25.55,-8.61 ; -25.55,-6.65 -25.55,-3.53 ; -25.55,-1.57 -25.55,1.55 ; -25.55,3.51 -25.55,6.63 ; -25.55,8.59 -25.55,11.71 ; -25.55,13.67 -25.55,16.79 ; -25.55,18.75 -25.55,21.87 ; -25.55,23.85 -25.55,25.55 -23.85,25.55 ; -21.87,-25.55 -18.75,-25.55 ; -21.87,25.55 -18.75,25.55 ; -16.81,25.55 -13.69,25.55 ; -16.79,-25.55 -13.67,-25.55 ; -11.73,25.55 -8.61,25.55 ; -11.71,-25.55 -8.59,-25.55 ; -6.65,25.55 -3.53,25.55 ; -6.63,-25.55 -3.51,-25.55 ; -1.57,25.55 1.55,25.55 ; -1.55,-25.55 1.57,-25.55 ; 3.51,25.55 6.63,25.55 ; 3.53,-25.55 6.65,-25.55 ; 8.59,25.55 11.71,25.55 ; 8.61,-25.55 11.73,-25.55 ; 13.67,25.55 16.79,25.55 ; 13.69,-25.55 16.81,-25.55 ; 18.75,-25.55 21.87,-25.55 ; 18.75,25.55 21.87,25.55 ; 23.85,-25.55 25.55,-25.55 25.55,-23.85 ; 23.85,25.55 25.55,25.55 25.55,23.85 ; 25.55,-21.87 25.55,-18.75 ; 25.55,-16.79 25.55,-13.67 ; 25.55,-11.71 25.55,-8.59 ; 25.55,-6.63 25.55,-3.51 ; 25.55,-1.55 25.55,1.57 ; 25.55,3.53 25.55,6.65 ; 25.55,8.61 25.55,11.73 ; 25.55,13.69 25.55,16.81 ; 25.55,18.75 25.55,21.87
Top Component Outline:
  lines w0.1: -25.5,-25.5 -25.5,25.5 25.5,25.5 25.5,-25.5 -25.5,-25.5
Top 3D Body:
  lines w0.1: -25.5,-25.5 25.5,-25.5 25.5,25.5 -25.5,25.5 -25.5,-25.5
Top Courtyard:
  lines w0.05: -26.2,-26.2 -26.2,26.2 26.2,26.2 26.2,-26.2 -26.2,-26.2
Top Component Center:
  lines w0.05: -0.5,0 0.5,0 ; 0,-0.5 0,0.5
Top Designator (Mech19):
  text ".Designator" at -7.498,-0.5 h1.5
3D body "36503505.stp": height 3.5, standoff -2.9, extent -25.5,-25.5 25.5,25.5